# Altium footprint library Connector.PcbLib: 47 footprints (part 1 of 3)
Each footprint in its own frame and in the unit in brackets; x right, y up, seen from the top. Pads: shape width x height; smd on the part's side, far side on the other; paste and mask are expansions set on the pad; w line width, h text height; cw(c..) or ccw(c..) is an arc to the next point about the centre after c.
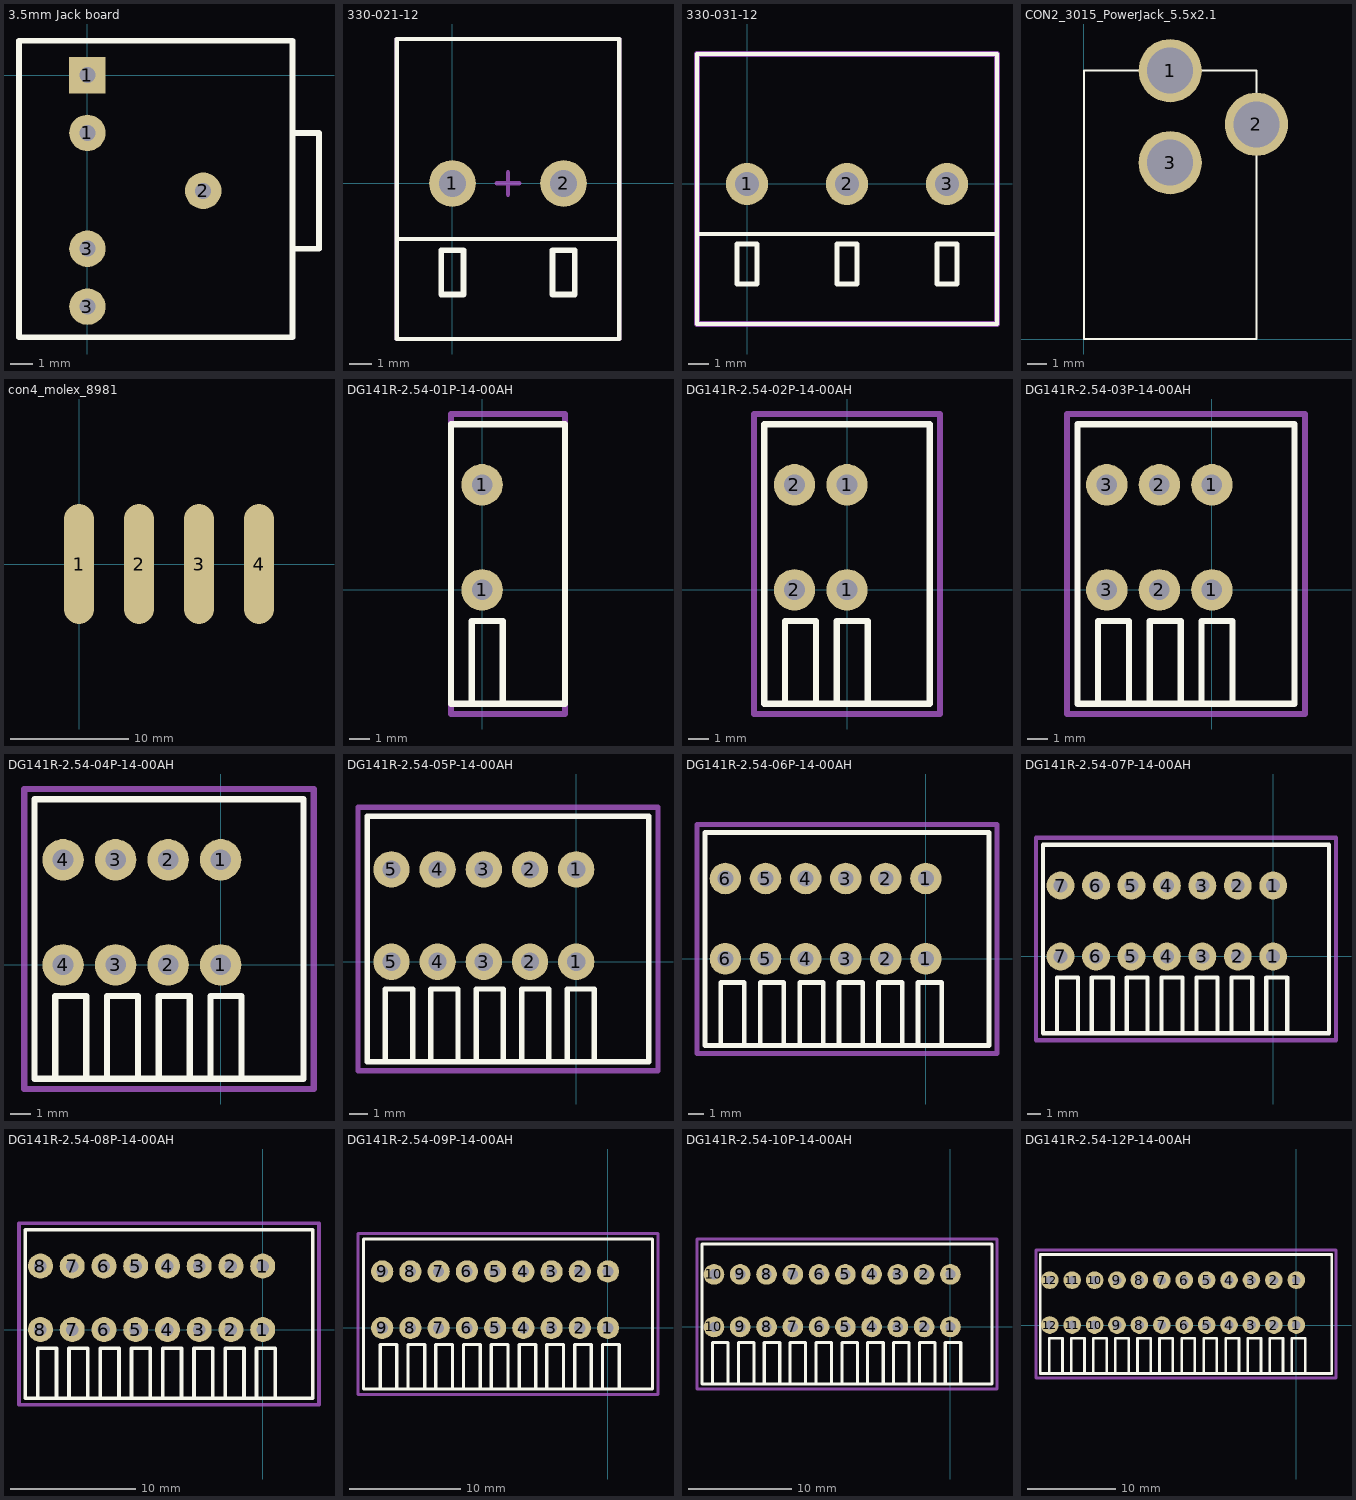
[diagram p0: the footprints below, top view; thin cyan lines are the x and y axes]

## 3.5mm Jack board [mm]
height 10
pads (5):
  round 1.6 hole 0.7: 1(0,-2.54) 2(5.08,-5.08) 3(0,-10.16) 3(0,-7.62)
  rect 1.6x1.6 hole 0.7: 1(0,0)
Top Overlay:
  lines w0.254: 9,-7.62 10.16,-7.62 10.16,-2.54 9,-2.54 ; -3,-11.5 9,-11.5 9,1.5 -3,1.5 -3,-11.5
3D body: height 7.74, standoff 4.25, extent 9,-6.747 13.1,-3.253
3D body: height 10, standoff 0, extent -3,-11.5 9,1.5
3D body: height 9.47, standoff 2.5, extent 9,-8.493 13,-1.507

## 330-021-12 [mm]
height 12
pads (2):
  round 2.1 hole 1.2: 1(0,0) 2(5,0)
Top Overlay:
  lines w0.2: -2.5,-2.5 7.5,-2.5 ; -2.5,-7 -2.5,6.5 7.5,6.5 7.5,-7 -2.5,-7
  lines w0.254: -0.5,-5 -0.5,-3 0.5,-3 0.5,-5 -0.5,-5 ; 4.5,-5 4.5,-3 5.5,-3 5.5,-5 4.5,-5
Mechanical 13:
  lines w0.2: -2.5,-7 7.5,-7 7.5,6.5 -2.5,6.5 -2.5,-7
Mechanical 15:
  lines w0.2: 2,0 3,0 ; 2.5,-0.5 2.5,0.5 ; -2.5,-7 7.5,-7 7.5,6.5 -2.5,6.5 -2.5,-7
3D body "330-0_1-12.stp": height 12.6, standoff -3.7, extent -2.5,-6.5 2.5,6
3D body "330-0_1-12.stp": height 12.6, standoff -3.7, extent 2.5,-6.5 7.5,6

## 330-031-12 [mm]
height 12
pads (3):
  round 2.1 hole 1.2: 1(0,0) 2(5,0) 3(10,0)
Top Overlay:
  lines w0.2: -2.5,-2.5 12.5,-2.5 ; -2.5,-7 12.5,-7 12.5,6.5 -2.5,6.5 -2.5,-7
  lines w0.254: -0.5,-5 0.5,-5 0.5,-3 -0.5,-3 -0.5,-5 ; 4.5,-5 5.5,-5 5.5,-3 4.5,-3 4.5,-5 ; 9.5,-5 10.5,-5 10.5,-3 9.5,-3 9.5,-5
Mechanical 13:
  lines w0.3: -2.5,-7 12.5,-7 12.5,6.5 -2.5,6.5 -2.5,-7
Mechanical 15:
  lines w0.3: 4.5,0 5,0 ; 5,-0.5 5,0 ; 5,0.5 5,0 ; 5.5,0 5,0 ; -2.5,-7 12.5,-7 12.5,6.5 -2.5,6.5 -2.5,-7
3D body "330-031-12.stp": height 12.6, standoff -3.7, extent -2.5,-6.5 12.5,6

## CON2_3015_PowerJack_5.5x2.1 [mm] "Power_Con"
height 7
pads (3):
  round 3.3 hole 2.4: 1(4.5,14) 2(9,11.2) 3(4.5,9.2)
Top Overlay:
  lines w0.1: 0,0 9,0 9,14 0,14 0,0
3D body: height 3, standoff 0.5, extent -0.1,-0.1 9,14
3D body: height 10.96, standoff 1, extent -0.5,0 9.48,14

## con4_molex_8981 [mm] "4-pin molex connection"
pads (4):
  oval 2.54x10.16 smd: 1(0,0) 2(5.08,0) 3(10.16,0) 4(15.24,0)

## DG141R-2.54-01P-14-00AH [mm] "Conn"
height 12.6
pads (2):
  round 2 hole 1: 1(0,0) 1(0,5.08)
Top Overlay:
  lines w0.3: -0.5,-5.5 -0.5,-1.5 1,-1.5 1,-5.5 ; -1.5,-5.5 4,-5.5 4,8 -1.5,8 -1.5,-5.5
Mechanical 15:
  lines w0.3: -1.5,-6 4,-6 4,8.5 -1.5,8.5 -1.5,-6
3D body "DG141R-2.54-01P-14-00AH.stp": height 13.3, standoff -2.8, extent -1.23,-5.513 3.85,8

## DG141R-2.54-02P-14-00AH [mm]
height 12.6
pads (4):
  round 2 hole 1: 1(0,0) 1(0,5.08) 2(-2.54,0) 2(-2.54,5.08)
Top Overlay:
  lines w0.3: -3,-5.5 -3,-1.5 -1.5,-1.5 -1.5,-5.5 ; -0.5,-5.5 -0.5,-1.5 1,-1.5 1,-5.5 ; -4,-5.5 -4,8 4,8 4,-5.5 -4,-5.5
Mechanical 15:
  lines w0.3: -4.5,-6 -4.5,8.5 4.5,8.5 4.5,-6 -4.5,-6
3D body "DG141R-2.54-02P-14-00AH.stp": height 13.3, standoff -2.8, extent -3.81,-5.513 3.81,8

## DG141R-2.54-03P-14-00AH [mm]
height 12.6
pads (6):
  round 2 hole 1: 1(0,0) 1(0,5.08) 2(-2.54,0) 2(-2.54,5.08) 3(-5.08,0) 3(-5.08,5.08)
Top Overlay:
  lines w0.3: -5.5,-5.5 -5.5,-1.5 -4,-1.5 -4,-5.5 ; -3,-5.5 -3,-1.5 -1.5,-1.5 -1.5,-5.5 ; -0.5,-5.5 -0.5,-1.5 1,-1.5 1,-5.5 ; -6.5,-5.5 -6.5,8 4,8 4,-5.5 -6.5,-5.5
Mechanical 15:
  lines w0.3: -7,-6 -7,8.5 4.5,8.5 4.5,-6 -7,-6
3D body "DG141R-2.54-03P-14-00AH.stp": height 13.3, standoff -2.8, extent -6.35,-5.513 3.81,8

## DG141R-2.54-04P-14-00AH [mm]
height 12.6
pads (8):
  round 2 hole 1: 1(0,0) 1(0,5.08) 2(-2.54,0) 2(-2.54,5.08) 3(-5.08,0) 3(-5.08,5.08) 4(-7.62,0) 4(-7.62,5.08)
Top Overlay:
  lines w0.3: -8,-5.5 -8,-1.5 -6.5,-1.5 -6.5,-5.5 ; -5.5,-5.5 -5.5,-1.5 -4,-1.5 -4,-5.5 ; -3,-5.5 -3,-1.5 -1.5,-1.5 -1.5,-5.5 ; -0.5,-5.5 -0.5,-1.5 1,-1.5 1,-5.5 ; -9,-5.5 -9,8 4,8 4,-5.5 -9,-5.5
Mechanical 15:
  lines w0.3: -9.5,-6 -9.5,8.5 4.5,8.5 4.5,-6 -9.5,-6
3D body "DG141R-2.54-04P-14-00AH.stp": height 13.3, standoff -2.8, extent -8.89,-5.513 3.81,8

## DG141R-2.54-05P-14-00AH [mm]
height 12.6
pads (10):
  round 2 hole 1: 1(0,0) 1(0,5.08) 2(-2.54,0) 2(-2.54,5.08) 3(-5.08,0) 3(-5.08,5.08) 4(-7.62,0) 4(-7.62,5.08) 5(-10.16,0) 5(-10.16,5.08)
Top Overlay:
  lines w0.3: -10.5,-5.5 -10.5,-1.5 -9,-1.5 -9,-5.5 ; -8,-5.5 -8,-1.5 -6.5,-1.5 -6.5,-5.5 ; -5.5,-5.5 -5.5,-1.5 -4,-1.5 -4,-5.5 ; -3,-5.5 -3,-1.5 -1.5,-1.5 -1.5,-5.5 ; -0.5,-5.5 -0.5,-1.5 1,-1.5 1,-5.5 ; -11.5,-5.5 4,-5.5 4,8 -11.5,8 -11.5,-5.5
Mechanical 15:
  lines w0.3: -12,-6 4.5,-6 4.5,8.5 -12,8.5 -12,-6
3D body "DG141R-2.54-05P-14-00AH.stp": height 13.3, standoff -2.8, extent -11.43,-5.513 3.81,8

## DG141R-2.54-06P-14-00AH [mm]
height 12.6
pads (12):
  round 2 hole 1: 1(0,0) 1(0,5.08) 2(-2.54,0) 2(-2.54,5.08) 3(-5.08,0) 3(-5.08,5.08) 4(-7.62,0) 4(-7.62,5.08) 5(-10.16,0) 5(-10.16,5.08) 6(-12.7,0) 6(-12.7,5.08)
Top Overlay:
  lines w0.3: -13,-5.5 -13,-1.5 -11.5,-1.5 -11.5,-5.5 ; -10.5,-5.5 -10.5,-1.5 -9,-1.5 -9,-5.5 ; -8,-5.5 -8,-1.5 -6.5,-1.5 -6.5,-5.5 ; -5.5,-5.5 -5.5,-1.5 -4,-1.5 -4,-5.5 ; -3,-5.5 -3,-1.5 -1.5,-1.5 -1.5,-5.5 ; -0.5,-5.5 -0.5,-1.5 1,-1.5 1,-5.5 ; -14,-5.5 -14,8 4,8 4,-5.5 -14,-5.5
Mechanical 15:
  lines w0.3: -14.5,-6 -14.5,8.5 4.5,8.5 4.5,-6 -14.5,-6
3D body "DG141R-2.54-06P-14-00AH.stp": height 13.3, standoff -2.8, extent -13.97,-5.513 3.81,8

## DG141R-2.54-07P-14-00AH [mm]
height 12.6
pads (14):
  round 2 hole 1: 1(0,0) 1(0,5.08) 2(-2.54,0) 2(-2.54,5.08) 3(-5.08,0) 3(-5.08,5.08) 4(-7.62,0) 4(-7.62,5.08) 5(-10.16,0) 5(-10.16,5.08) 6(-12.7,0) 6(-12.7,5.08) 7(-15.24,0) 7(-15.24,5.08)
Top Overlay:
  lines w0.3: -15.5,-5.5 -15.5,-1.5 -14,-1.5 -14,-5.5 ; -13,-5.5 -13,-1.5 -11.5,-1.5 -11.5,-5.5 ; -10.5,-5.5 -10.5,-1.5 -9,-1.5 -9,-5.5 ; -8,-5.5 -8,-1.5 -6.5,-1.5 -6.5,-5.5 ; -5.5,-5.5 -5.5,-1.5 -4,-1.5 -4,-5.5 ; -3,-5.5 -3,-1.5 -1.5,-1.5 -1.5,-5.5 ; -0.5,-5.5 -0.5,-1.5 1,-1.5 1,-5.5 ; -16.5,-5.5 -16.5,8 4,8 4,-5.5 -16.5,-5.5
Mechanical 15:
  lines w0.3: -17,-6 -17,8.5 4.5,8.5 4.5,-6 -17,-6
3D body "DG141R-2.54-07P-14-00AH.stp": height 13.3, standoff -2.8, extent -16.51,-5.513 3.81,8

## DG141R-2.54-08P-14-00AH [mm]
height 12.6
pads (16):
  round 2 hole 1: 1(0,0) 1(0,5.08) 2(-2.54,0) 2(-2.54,5.08) 3(-5.08,0) 3(-5.08,5.08) 4(-7.62,0) 4(-7.62,5.08) 5(-10.16,0) 5(-10.16,5.08) 6(-12.7,0) 6(-12.7,5.08) 7(-15.24,0) 7(-15.24,5.08) 8(-17.78,0) 8(-17.78,5.08)
Top Overlay:
  lines w0.3: -18,-5.5 -18,-1.5 -16.5,-1.5 -16.5,-5.5 ; -15.5,-5.5 -15.5,-1.5 -14,-1.5 -14,-5.5 ; -13,-5.5 -13,-1.5 -11.5,-1.5 -11.5,-5.5 ; -10.5,-5.5 -10.5,-1.5 -9,-1.5 -9,-5.5 ; -8,-5.5 -8,-1.5 -6.5,-1.5 -6.5,-5.5 ; -5.5,-5.5 -5.5,-1.5 -4,-1.5 -4,-5.5 ; -3,-5.5 -3,-1.5 -1.5,-1.5 -1.5,-5.5 ; -0.5,-5.5 -0.5,-1.5 1,-1.5 1,-5.5 ; -19,-5.5 4,-5.5 4,8 -19,8 -19,-5.5
Mechanical 15:
  lines w0.3: -19.5,-6 4.5,-6 4.5,8.5 -19.5,8.5 -19.5,-6
3D body "DG141R-2.54-08P-14-00AH.stp": height 13.3, standoff -2.8, extent -19.05,-5.513 3.81,8

## DG141R-2.54-09P-14-00AH [mm]
height 12.6
pads (18):
  round 2 hole 1: 1(0,0) 1(0,5.08) 2(-2.54,0) 2(-2.54,5.08) 3(-5.08,0) 3(-5.08,5.08) 4(-7.62,0) 4(-7.62,5.08) 5(-10.16,0) 5(-10.16,5.08) 6(-12.7,0) 6(-12.7,5.08) 7(-15.24,0) 7(-15.24,5.08) 8(-17.78,0) 8(-17.78,5.08) 9(-20.32,0) 9(-20.32,5.08)
Top Overlay:
  lines w0.3: -20.5,-5.5 -20.5,-1.5 -19,-1.5 -19,-5.5 ; -18,-5.5 -18,-1.5 -16.5,-1.5 -16.5,-5.5 ; -15.5,-5.5 -15.5,-1.5 -14,-1.5 -14,-5.5 ; -13,-5.5 -13,-1.5 -11.5,-1.5 -11.5,-5.5 ; -10.5,-5.5 -10.5,-1.5 -9,-1.5 -9,-5.5 ; -8,-5.5 -8,-1.5 -6.5,-1.5 -6.5,-5.5 ; -5.5,-5.5 -5.5,-1.5 -4,-1.5 -4,-5.5 ; -3,-5.5 -3,-1.5 -1.5,-1.5 -1.5,-5.5 ; -0.5,-5.5 -0.5,-1.5 1,-1.5 1,-5.5 ; -22,-5.5 4,-5.5 4,8 -22,8 -22,-5.5
Mechanical 15:
  lines w0.3: -22.5,-6 4.5,-6 4.5,8.5 -22.5,8.5 -22.5,-6
3D body "DG141R-2.54-09P-14-00AH.stp": height 13.3, standoff -2.8, extent -21.59,-5.513 3.81,8

## DG141R-2.54-10P-14-00AH [mm]
height 12.6
pads (20):
  round 2 hole 1: 1(0,0) 1(0,5.08) 2(-2.54,0) 2(-2.54,5.08) 3(-5.08,0) 3(-5.08,5.08) 4(-7.62,0) 4(-7.62,5.08) 5(-10.16,0) 5(-10.16,5.08) 6(-12.7,0) 6(-12.7,5.08) 7(-15.24,0) 7(-15.24,5.08) 8(-17.78,0) 8(-17.78,5.08) 9(-20.32,0) 9(-20.32,5.08) 10(-22.86,0) 10(-22.86,5.08)
Top Overlay:
  lines w0.3: -23,-5.5 -23,-1.5 -21.5,-1.5 -21.5,-5.5 ; -20.5,-5.5 -20.5,-1.5 -19,-1.5 -19,-5.5 ; -18,-5.5 -18,-1.5 -16.5,-1.5 -16.5,-5.5 ; -15.5,-5.5 -15.5,-1.5 -14,-1.5 -14,-5.5 ; -13,-5.5 -13,-1.5 -11.5,-1.5 -11.5,-5.5 ; -10.5,-5.5 -10.5,-1.5 -9,-1.5 -9,-5.5 ; -8,-5.5 -8,-1.5 -6.5,-1.5 -6.5,-5.5 ; -5.5,-5.5 -5.5,-1.5 -4,-1.5 -4,-5.5 ; -3,-5.5 -3,-1.5 -1.5,-1.5 -1.5,-5.5 ; -0.5,-5.5 -0.5,-1.5 1,-1.5 1,-5.5 ; -24,-5.5 -24,8 4,8 4,-5.5 -24,-5.5
Mechanical 15:
  lines w0.3: -24.5,-6 -24.5,8.5 4.5,8.5 4.5,-6 -24.5,-6
3D body "DG141R-2.54-10P-14-00AH.stp": height 13.3, standoff -2.8, extent -24.13,-5.513 3.81,8

## DG141R-2.54-12P-14-00AH [mm]
height 12.6
pads (24):
  round 2 hole 1: 1(0,0) 1(0,5.08) 2(-2.54,0) 2(-2.54,5.08) 3(-5.08,0) 3(-5.08,5.08) 4(-7.62,0) 4(-7.62,5.08) 5(-10.16,0) 5(-10.16,5.08) 6(-12.7,0) 6(-12.7,5.08) 7(-15.24,0) 7(-15.24,5.08) 8(-17.78,0) 8(-17.78,5.08) 9(-20.32,0) 9(-20.32,5.08) 10(-22.86,0) 10(-22.86,5.08) 11(-25.4,0) 11(-25.4,5.08) 12(-27.94,0) 12(-27.94,5.08)
Top Overlay:
  lines w0.3: -28,-5.5 -28,-1.5 -26.5,-1.5 -26.5,-5.5 ; -25.5,-5.5 -25.5,-1.5 -24,-1.5 -24,-5.5 ; -23,-5.5 -23,-1.5 -21.5,-1.5 -21.5,-5.5 ; -20.5,-5.5 -20.5,-1.5 -19,-1.5 -19,-5.5 ; -18,-5.5 -18,-1.5 -16.5,-1.5 -16.5,-5.5 ; -15.5,-5.5 -15.5,-1.5 -14,-1.5 -14,-5.5 ; -13,-5.5 -13,-1.5 -11.5,-1.5 -11.5,-5.5 ; -10.5,-5.5 -10.5,-1.5 -9,-1.5 -9,-5.5 ; -8,-5.5 -8,-1.5 -6.5,-1.5 -6.5,-5.5 ; -5.5,-5.5 -5.5,-1.5 -4,-1.5 -4,-5.5 ; -3,-5.5 -3,-1.5 -1.5,-1.5 -1.5,-5.5 ; -0.5,-5.5 -0.5,-1.5 1,-1.5 1,-5.5 ; -29,-5.5 4,-5.5 4,8 -29,8 -29,-5.5
Mechanical 15:
  lines w0.3: -29.5,-6 4.5,-6 4.5,8.5 -29.5,8.5 -29.5,-6
3D body "DG141R-2.54-12P-14-00AH.stp": height 13.3, standoff -2.8, extent -29.19,-5.55 3.83,7.963